# EAGLE library part FDC6506P (library transistor-fet)
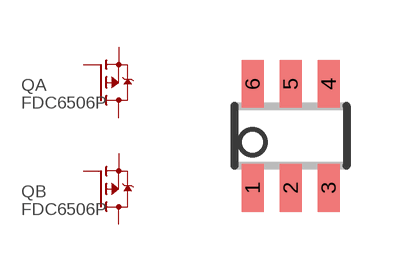
[diagram p6: symbol with the pads of SSOT6; footprint SSOT6]

Designator prefix Q; gates A=P-MOSFET B=P-MOSFET

## FDC6506P  [SSOT6]
1  A:G  pas
2  B:S  pas
3  B:G  pas
4  B:D  pas
5  A:S  pas
6  A:D  pas

## Footprint SSOT6 (pad centres in mm)
SuperSOT-6 Source: Fairchild Semiconductor International ssot6_dim.pdf September 1998, Rev. A
smd 0.55 x 1.2: 1 -0.95,-1.3; 2 0,-1.3; 3 0.95,-1.3; 4 0.95,1.3; 5 0,1.3; 6 -0.95,1.3